# EAGLE library part ADP3334 (library Regulator)
ADP3334 High Accuracy, Low IQ, anyCAP® Adjustable Low Dropout Regulator
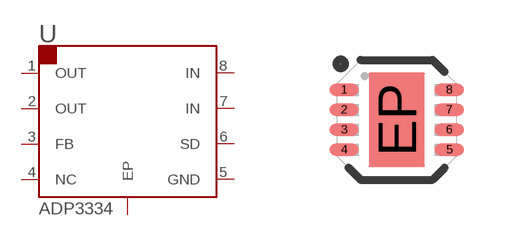
[diagram p1: symbol with the pads of 8-LFCSP; footprint 8-LFCSP]

Designator prefix U

## ADP3334ACP (PARTNO: 01-100477-00)  [8-LFCSP]
1  OUT  pwr
2  OUT  pwr
3  FB  in
4  NC  nc
5  GND  pwr
6  SD  in
7  IN  pwr
8  IN  pwr
EP  EP  pwr

## Footprint 8-LFCSP (pad centres in mm)
8-LFCSP Auto generated by make-symbol-device-package-bsdl.ulp Rev. 43 -Added exposed pad -Changed tPlace and text -Custom soldermask & cream layers Package Settings: L/L1 - 3 D - 1.9 D1 - 2.75 m - 0 b - 0.3 e - 0.5 w - 0.18 x - 0.73 y - 0.3 r - 100
smd 0.73 x 0.3: 1 -1.315,0.75; 2 -1.315,0.25; 3 -1.315,-0.25; 4 -1.315,-0.75; 5 1.315,-0.75; 6 1.315,-0.25; 7 1.315,0.25; 8 1.315,0.75
smd 1.4 x 2.36: EP 0,0